# EAGLE library part TUSB2077APT (library Inventory)
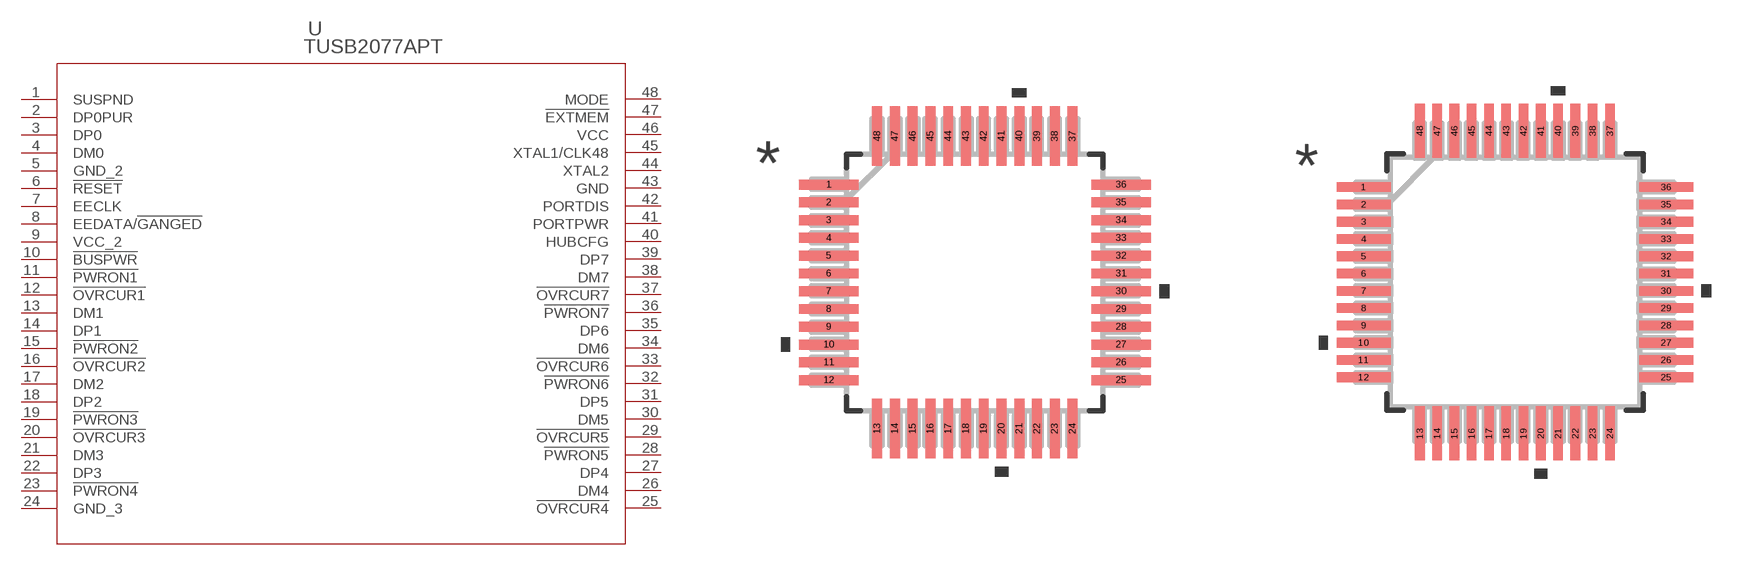
[diagram p12: symbol with the pads of PT48; footprints PT48, PT48-M]

Designator prefix U

## TUSB2077APT (COPYRIGHT: Copyright (C) 2022 Ultra Librarian. All rights reserved.; DIGI-KEY_PART_NUMBER_1: 296-11089-ND; DIGI-KEY_PART_NUMBER_2: 2156-TUSB2077APT-ND; MANUFACTURER_PART_NUMBER: TUSB2077APT; MFR_NAME: Texas Instruments)  [PT48]
1  SUSPND  out
2  DP0PUR  out
3  DP0  pas
4  DM0
5  GND_2  pwr
6  !RESET  in
7  EECLK  out
8  EEDATA/!GANGED
9  VCC_2  pwr
10  !BUSPWR  pas
11  !PWRON1  out
12  !OVRCUR1  in
13  DM1
14  DP1
15  !PWRON2  out
16  !OVRCUR2  in
17  DM2
18  DP2
19  !PWRON3  out
20  !OVRCUR3  in
21  DM3
22  DP3
23  !PWRON4  out
24  GND_3  pwr
25  !OVRCUR4  in
26  DM4
27  DP4
28  !PWRON5  out
29  !OVRCUR5  in
30  DM5
31  DP5
32  !PWRON6  out
33  !OVRCUR6  in
34  DM6
35  DP6
36  !PWRON7  out
37  !OVRCUR7  in
38  DM7
39  DP7
40  HUBCFG  out
41  PORTPWR  out
42  PORTDIS  out
43  GND  pwr
44  XTAL2  out
45  XTAL1/CLK48  in
46  VCC  pwr
47  !EXTMEM  in
48  MODE  in

## TUSB2077APTPT48-M (COPYRIGHT: Copyright (C) 2022 Ultra Librarian. All rights reserved.; DIGI-KEY_PART_NUMBER_1: 296-11089-ND; DIGI-KEY_PART_NUMBER_2: 2156-TUSB2077APT-ND; MANUFACTURER_PART_NUMBER: TUSB2077APT; MFR_NAME: Texas Instruments)  [PT48-M]
Pads as for PT48

## TUSB2077APTPT48-L (COPYRIGHT: Copyright (C) 2022 Ultra Librarian. All rights reserved.; DIGI-KEY_PART_NUMBER_1: 296-11089-ND; DIGI-KEY_PART_NUMBER_2: 2156-TUSB2077APT-ND; MANUFACTURER_PART_NUMBER: TUSB2077APT; MFR_NAME: Texas Instruments)  [PT48-L]
Pads as for PT48

## Footprint PT48 (pad centres in mm)
smd 1.676 x 0.279: 1 -4.115,2.75; 2 -4.115,2.25; 3 -4.115,1.75; 4 -4.115,1.25; 5 -4.115,0.75; 6 -4.115,0.25; 7 -4.115,-0.25; 8 -4.115,-0.75; 9 -4.115,-1.25; 10 -4.115,-1.75; 11 -4.115,-2.25; 12 -4.115,-2.75; 25 4.115,-2.75; 26 4.115,-2.25; 27 4.115,-1.75; 28 4.115,-1.25; 29 4.115,-0.75; 30 4.115,-0.25; 31 4.115,0.25; 32 4.115,0.75; 33 4.115,1.25; 34 4.115,1.75; 35 4.115,2.25; 36 4.115,2.75
smd 0.279 x 1.676: 13 -2.75,-4.115; 14 -2.25,-4.115; 15 -1.75,-4.115; 16 -1.25,-4.115; 17 -0.75,-4.115; 18 -0.25,-4.115; 19 0.25,-4.115; 20 0.75,-4.115; 21 1.25,-4.115; 22 1.75,-4.115; 23 2.25,-4.115; 24 2.75,-4.115; 37 2.75,4.115; 38 2.25,4.115; 39 1.75,4.115; 40 1.25,4.115; 41 0.75,4.115; 42 0.25,4.115; 43 -0.25,4.115; 44 -0.75,4.115; 45 -1.25,4.115; 46 -1.75,4.115; 47 -2.25,4.115; 48 -2.75,4.115

## Footprint PT48-M (pad centres in mm)
smd 1.562 x 0.279: 1 -4.375,2.75; 2 -4.375,2.25; 3 -4.375,1.75; 4 -4.375,1.25; 5 -4.375,0.75; 6 -4.375,0.25; 7 -4.375,-0.25; 8 -4.375,-0.75; 9 -4.375,-1.25; 10 -4.375,-1.75; 11 -4.375,-2.25; 12 -4.375,-2.75; 25 4.375,-2.75; 26 4.375,-2.25; 27 4.375,-1.75; 28 4.375,-1.25; 29 4.375,-0.75; 30 4.375,-0.25; 31 4.375,0.25; 32 4.375,0.75; 33 4.375,1.25; 34 4.375,1.75; 35 4.375,2.25; 36 4.375,2.75
smd 0.279 x 1.562: 13 -2.75,-4.375; 14 -2.25,-4.375; 15 -1.75,-4.375; 16 -1.25,-4.375; 17 -0.75,-4.375; 18 -0.25,-4.375; 19 0.25,-4.375; 20 0.75,-4.375; 21 1.25,-4.375; 22 1.75,-4.375; 23 2.25,-4.375; 24 2.75,-4.375; 37 2.75,4.375; 38 2.25,4.375; 39 1.75,4.375; 40 1.25,4.375; 41 0.75,4.375; 42 0.25,4.375; 43 -0.25,4.375; 44 -0.75,4.375; 45 -1.25,4.375; 46 -1.75,4.375; 47 -2.25,4.375; 48 -2.75,4.375

## Footprint PT48-L (pad centres in mm)
smd 1.156 x 0.229: 1 -4.172,2.75; 2 -4.172,2.25; 3 -4.172,1.75; 4 -4.172,1.25; 5 -4.172,0.75; 6 -4.172,0.25; 7 -4.172,-0.25; 8 -4.172,-0.75; 9 -4.172,-1.25; 10 -4.172,-1.75; 11 -4.172,-2.25; 12 -4.172,-2.75; 25 4.172,-2.75; 26 4.172,-2.25; 27 4.172,-1.75; 28 4.172,-1.25; 29 4.172,-0.75; 30 4.172,-0.25; 31 4.172,0.25; 32 4.172,0.75; 33 4.172,1.25; 34 4.172,1.75; 35 4.172,2.25; 36 4.172,2.75
smd 0.229 x 1.156: 13 -2.75,-4.172; 14 -2.25,-4.172; 15 -1.75,-4.172; 16 -1.25,-4.172; 17 -0.75,-4.172; 18 -0.25,-4.172; 19 0.25,-4.172; 20 0.75,-4.172; 21 1.25,-4.172; 22 1.75,-4.172; 23 2.25,-4.172; 24 2.75,-4.172; 37 2.75,4.172; 38 2.25,4.172; 39 1.75,4.172; 40 1.25,4.172; 41 0.75,4.172; 42 0.25,4.172; 43 -0.25,4.172; 44 -0.75,4.172; 45 -1.25,4.172; 46 -1.75,4.172; 47 -2.25,4.172; 48 -2.75,4.172